# EAGLE library part DDR3 (library IC_Memory)
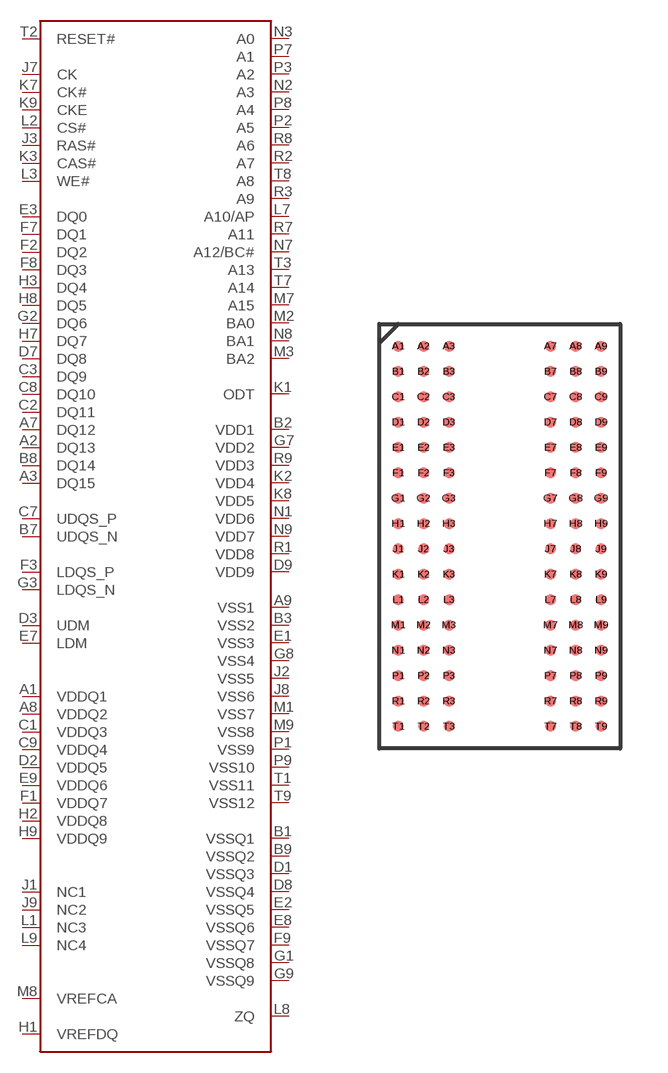
[diagram p0: symbol with the pads of FBGA96; footprint FBGA96]

Designator prefix -

## DDR3  [FBGA96]
A1  VDDQ1
A2  DQ13
A3  DQ15
A7  DQ12
A8  VDDQ2
A9  VSS1
B1  VSSQ1
B2  VDD1
B3  VSS2
B7  UDQS_N
B8  DQ14
B9  VSSQ2
C1  VDDQ3
C2  DQ11
C3  DQ9
C7  UDQS_P
C8  DQ10
C9  VDDQ4
D1  VSSQ3
D2  VDDQ5
D3  UDM
D7  DQ8
D8  VSSQ4
D9  VDD9
E1  VSS3
E2  VSSQ5
E3  DQ0
E7  LDM
E8  VSSQ6
E9  VDDQ6
F1  VDDQ7
F2  DQ2
F3  LDQS_P
F7  DQ1
F8  DQ3
F9  VSSQ7
G1  VSSQ8
G2  DQ6
G3  LDQS_N
G7  VDD2
G8  VSS4
G9  VSSQ9
H1  VREFDQ
H2  VDDQ8
H3  DQ4
H7  DQ7
H8  DQ5
H9  VDDQ9
J1  NC1
J2  VSS5
J3  RAS#
J7  CK
J8  VSS6
J9  NC2
K1  ODT
K2  VDD4
K3  CAS#
K7  CK#
K8  VDD5
K9  CKE
L1  NC3
L2  CS#
L3  WE#
L7  A10/AP
L8  ZQ
L9  NC4
M1  VSS7
M2  BA0
M3  BA2
M7  A15
M8  VREFCA
M9  VSS8
N1  VDD6
N2  A3
N3  A0
N7  A12/BC#
N8  BA1
N9  VDD7
P1  VSS9
P2  A5
P3  A2
P7  A1
P8  A4
P9  VSS10
R1  VDD8
R2  A7
R3  A9
R7  A11
R8  A6
R9  VDD3
T1  VSS11
T2  RESET#
T3  A13
T7  A14
T8  A8
T9  VSS12

## Footprint FBGA96 (pad centres in mm)
smd 0.35 x 0.35: A1 0.6,-0.7; A2 1.4,-0.7; A3 2.2,-0.7; A7 5.4,-0.7; A8 6.2,-0.7; A9 7,-0.7; B1 0.6,-1.5; B2 1.4,-1.5; B3 2.2,-1.5; B7 5.4,-1.5; B8 6.2,-1.5; B9 7,-1.5; C1 0.6,-2.3; C2 1.4,-2.3; C3 2.2,-2.3; C7 5.4,-2.3; C8 6.2,-2.3; C9 7,-2.3; D1 0.6,-3.1; D2 1.4,-3.1; D3 2.2,-3.1; D7 5.4,-3.1; D8 6.2,-3.1; D9 7,-3.1; E1 0.6,-3.9; E2 1.4,-3.9; E3 2.2,-3.9; E7 5.4,-3.9; E8 6.2,-3.9; E9 7,-3.9; F1 0.6,-4.7; F2 1.4,-4.7; F3 2.2,-4.7; F7 5.4,-4.7; F8 6.2,-4.7; F9 7,-4.7; G1 0.6,-5.5; G2 1.4,-5.5; G3 2.2,-5.5; G7 5.4,-5.5; G8 6.2,-5.5; G9 7,-5.5; H1 0.6,-6.3; H2 1.4,-6.3; H3 2.2,-6.3; H7 5.4,-6.3; H8 6.2,-6.3; H9 7,-6.3; J1 0.6,-7.1; J2 1.4,-7.1; J3 2.2,-7.1; J7 5.4,-7.1; J8 6.2,-7.1; J9 7,-7.1; K1 0.6,-7.9; K2 1.4,-7.9; K3 2.2,-7.9; K7 5.4,-7.9; K8 6.2,-7.9; K9 7,-7.9; L1 0.6,-8.7; L2 1.4,-8.7; L3 2.2,-8.7; L7 5.4,-8.7; L8 6.2,-8.7; L9 7,-8.7; M1 0.6,-9.5; M2 1.4,-9.5; M3 2.2,-9.5; M7 5.4,-9.5; M8 6.2,-9.5; M9 7,-9.5; N1 0.6,-10.3; N2 1.4,-10.3; N3 2.2,-10.3; N7 5.4,-10.3; N8 6.2,-10.3; N9 7,-10.3; P1 0.6,-11.1; P2 1.4,-11.1; P3 2.2,-11.1; P7 5.4,-11.1; P8 6.2,-11.1; P9 7,-11.1; R1 0.6,-11.9; R2 1.4,-11.9; R3 2.2,-11.9; R7 5.4,-11.9; R8 6.2,-11.9; R9 7,-11.9; T1 0.6,-12.7; T2 1.4,-12.7; T3 2.2,-12.7; T7 5.4,-12.7; T8 6.2,-12.7; T9 7,-12.7